# Altium footprint library BIG_FPGA.PcbLib: 29 footprints (part 1 of 2)
Each footprint in its own frame and in the unit in brackets; x right, y up, seen from the top. Pads: shape width x height; smd on the part's side, far side on the other; paste and mask are expansions set on the pad; w line width, h text height; cw(c..) or ccw(c..) is an arc to the next point about the centre after c.
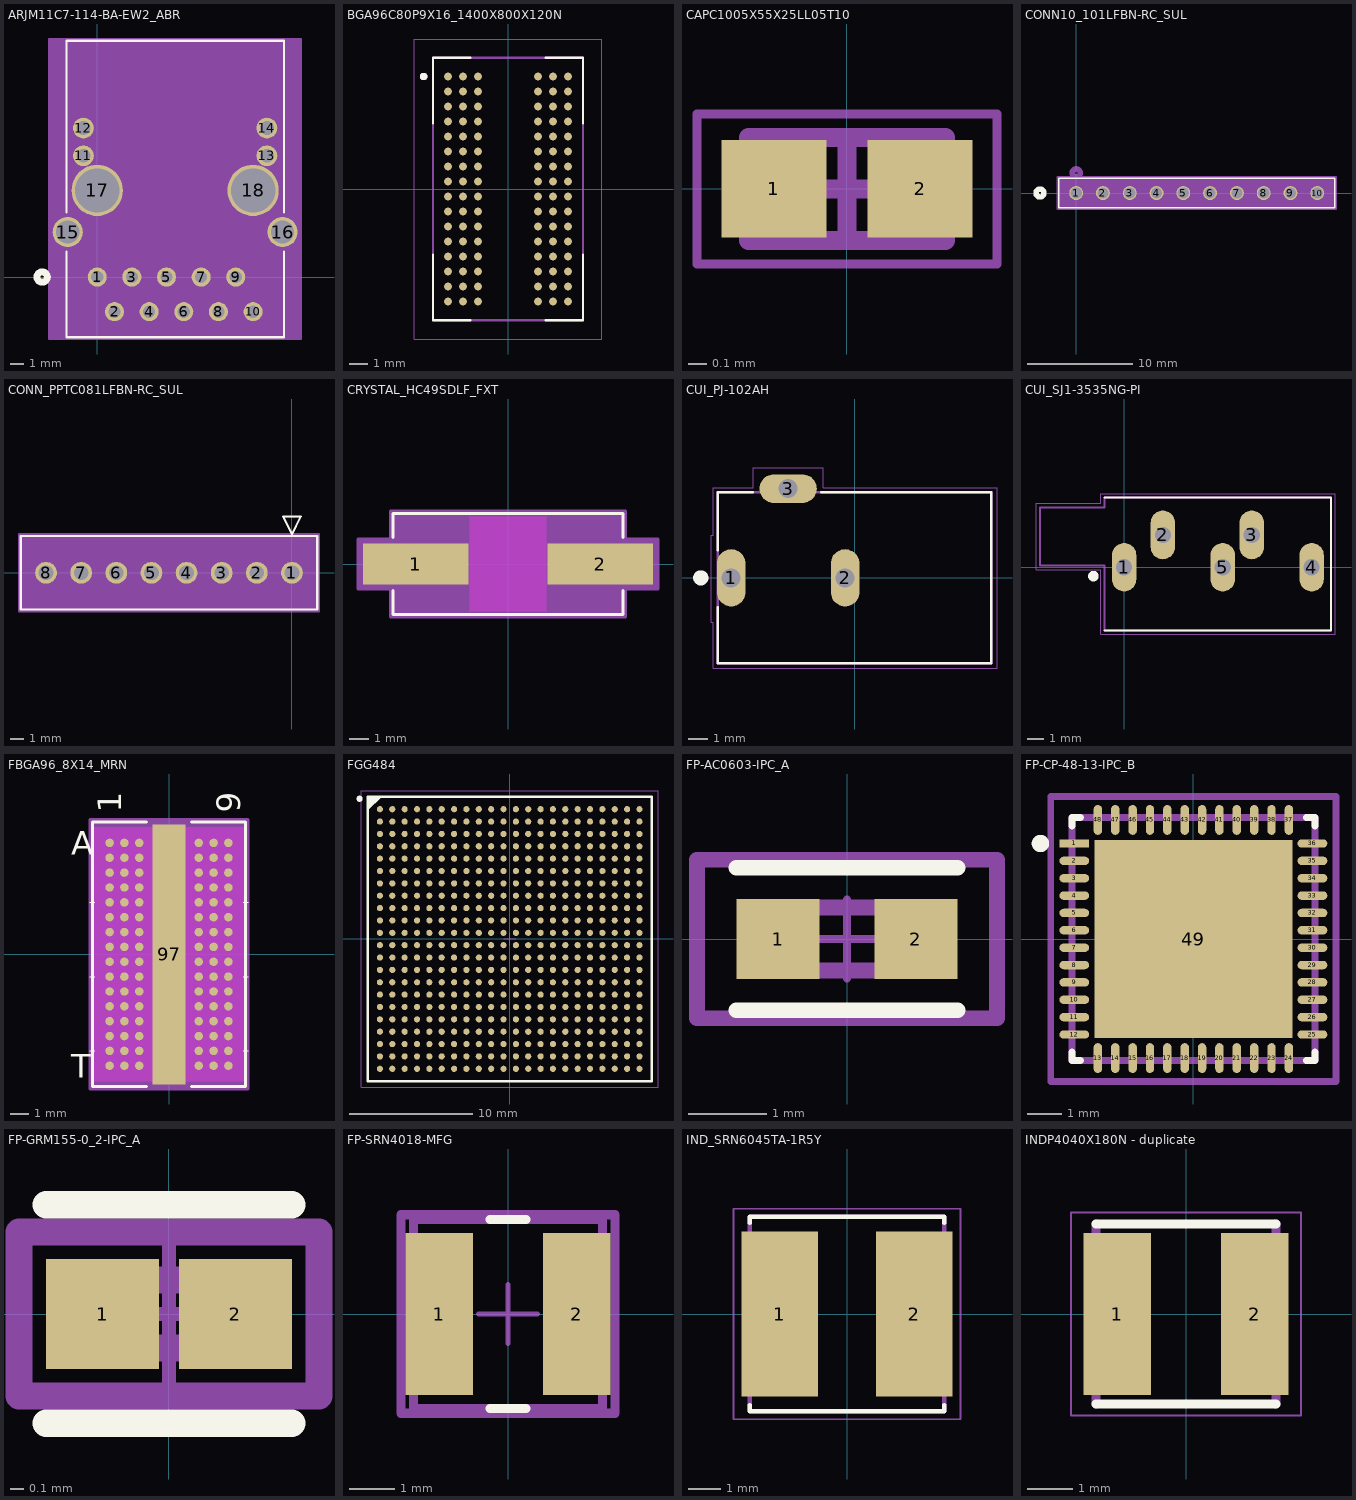
[diagram p0: the footprints below, top view; thin cyan lines are the x and y axes]

## ARJM11C7-114-BA-EW2_ABR [mil]
pads (18):
  round 55 / inner round 60 / far side round 55 hole 35 paste-99999 mask+0: 1(0,0) 2(50,-100) 3(100,0) 4(150,-100) 5(200,0) 6(250,-100) 7(300,0) 8(350,-100) 9(400,0) 10(450,-100)
  round 60 hole 40 unplated paste-99999 mask-30: 11(-39.76,350) 12(-39.76,429.92) 13(489.76,350) 14(489.76,429.92)
  round 87 / inner round 60 / far side round 87 hole 67 paste-99999 mask-43.5: 15(-85.04,129.92) 16(535.04,129.92)
  round 148 / inner round 60 / far side round 148 hole 128 paste-99999 mask-74: 17(0,250) 18(450,250)
Top Overlay:
  circle w20: c-159,0 r15
  lines w6: -89,73.46 -89,-173.83 539,-173.83 539,73.46 ; -89,186.38 -89,682.17 539,682.17 539,186.38
Bottom Overlay:
  circle w20: c-159,0 r15
Top 3D Body:
  circle w20: c0,175 r15
  lines w1: -84,-168.83 -84,677.17 534,677.17 534,-168.83 -84,-168.83
Top Courtyard:
  region: 588.54,687.17 -138.54,687.17 -138.54,-178.83 588.54,-178.83
  lines w6: -138.54,-178.83 588.54,-178.83 588.54,687.17 -138.54,687.17 -138.54,-178.83

## BGA96C80P9X16_1400X800X120N [mm]
pads (96):
  round 0.43 smd: A1(-3.2,6) A2(-2.4,6) A3(-1.6,6) A7(1.6,6) A8(2.4,6) A9(3.2,6) B1(-3.2,5.2) B2(-2.4,5.2) B3(-1.6,5.2) B7(1.6,5.2) B8(2.4,5.2) B9(3.2,5.2) C1(-3.2,4.4) C2(-2.4,4.4) C3(-1.6,4.4) C7(1.6,4.4) C8(2.4,4.4) C9(3.2,4.4) D1(-3.2,3.6) D2(-2.4,3.6) D3(-1.6,3.6) D7(1.6,3.6) D8(2.4,3.6) D9(3.2,3.6) E1(-3.2,2.8) E2(-2.4,2.8) E3(-1.6,2.8) E7(1.6,2.8) E8(2.4,2.8) E9(3.2,2.8) F1(-3.2,2) F2(-2.4,2) F3(-1.6,2) F7(1.6,2) F8(2.4,2) F9(3.2,2) G1(-3.2,1.2) G2(-2.4,1.2) G3(-1.6,1.2) G7(1.6,1.2) G8(2.4,1.2) G9(3.2,1.2) H1(-3.2,0.4) H2(-2.4,0.4) H3(-1.6,0.4) H7(1.6,0.4) H8(2.4,0.4) H9(3.2,0.4) J1(-3.2,-0.4) J2(-2.4,-0.4) J3(-1.6,-0.4) J7(1.6,-0.4) J8(2.4,-0.4) J9(3.2,-0.4) K1(-3.2,-1.2) K2(-2.4,-1.2) K3(-1.6,-1.2) K7(1.6,-1.2) K8(2.4,-1.2) K9(3.2,-1.2) L1(-3.2,-2) L2(-2.4,-2) L3(-1.6,-2) L7(1.6,-2) L8(2.4,-2) L9(3.2,-2) M1(-3.2,-2.8) M2(-2.4,-2.8) M3(-1.6,-2.8) M7(1.6,-2.8) M8(2.4,-2.8) M9(3.2,-2.8) N1(-3.2,-3.6) N2(-2.4,-3.6) N3(-1.6,-3.6) N7(1.6,-3.6) N8(2.4,-3.6) N9(3.2,-3.6) P1(-3.2,-4.4) P2(-2.4,-4.4) P3(-1.6,-4.4) P7(1.6,-4.4) P8(2.4,-4.4) P9(3.2,-4.4) R1(-3.2,-5.2) R2(-2.4,-5.2) R3(-1.6,-5.2) R7(1.6,-5.2) R8(2.4,-5.2) R9(3.2,-5.2) T1(-3.2,-6) T2(-2.4,-6) T3(-1.6,-6) T7(1.6,-6) T8(2.4,-6) T9(3.2,-6)
Top Overlay:
  circle w0.2: c-4.5,6 r0.1
  lines w0.127: -4,-3.5 -4,-7 -2,-7 ; -4,3.5 -4,7 -2,7 ; 2,-7 4,-7 4,-3.5 ; 2,7 4,7 4,3.5
Top 3D Body:
  circle w0.2: c-4.5,6 r0.1
  lines w0.127: -4,-7 -4,7 4,7 4,-7 -4,-7
Top Courtyard:
  lines w0.05: -5,-8 -5,8 5,8 5,-8 -5,-8

## CAPC1005X55X25LL05T10 [mm] "Chip Capacitor, 2-Leads, Body 1.00x0.50mm, IPC High Density"
height 0.55
pads (2):
  rect 0.56x0.52 smd: 1(-0.39,0) 2(0.39,0)
Top 3D Body:
  lines w0.1: -0.525,-0.275 -0.525,0.275 0.525,0.275 0.525,-0.275 -0.525,-0.275
Top Courtyard:
  lines w0.05: -0.8,-0.4 -0.8,0.4 0.8,0.4 0.8,-0.4 -0.8,-0.4
  lines w0.1: -0.275,0 0.275,0 ; 0,-0.275 0,0.275
3D body: height 0.55, standoff 0, extent -0.275,-0.275 0.275,0.275
3D body: height 0.55, standoff 0, extent -0.525,-0.275 -0.275,0.275
3D body: height 0.55, standoff 0, extent 0.275,-0.275 0.525,0.275

## CONN10_101LFBN-RC_SUL [mil]
pads (10):
  round 52 / inner round 60 / far side round 52 hole 42 paste-26 mask+0: 1(0,0) 2(100,0) 3(200,0) 4(300,0) 5(400,0) 6(500,0) 7(600,0) 8(700,0) 9(800,0) 10(900,0)
Top Overlay:
  circle w20: c-135,0 r15
  lines w6: -65,-55 -65,55 965,55 965,-55 -65,-55
Bottom Overlay:
  circle w20: c-135,0 r15
Top 3D Body:
  circle w20: c0,75 r15
  lines w1: -60,-50 -60,50 960,50 960,-50 -60,-50
Top Courtyard:
  region: 970,60 -70,60 -70,-60 970,-60
  lines w6: -70,-60 970,-60 970,60 -70,60 -70,-60

## CONN_PPTC081LFBN-RC_SUL [mil]
pads (8):
  round 62 / inner round 60 / far side round 62 hole 42 paste-31 mask+0: 1(0,0) 2(-100,0) 3(-200,0) 4(-300,0) 5(-400,0) 6(-500,0) 7(-600,0) 8(-700,0)
Top Overlay:
  lines w6: -772,-105 -772,105 72,105 72,-105 -772,-105 ; -25,160 25,160 0,110 -25,160
Top 3D Body:
  lines w1: -767,-100 -767,100 67,100 67,-100 -767,-100 ; -25,160 25,160 0,110 -25,160
Top Courtyard:
  region: 77,110 -777,110 -777,-110 77,-110
  lines w6: -777,-110 77,-110 77,110 -777,110 -777,-110

## CRYSTAL_HC49SDLF_FXT [mil]
pads (2):
  rect 216.5x83 smd paste+0 mask+0: 1(-188.75,0) 2(188.75,0)
Top Layer keep-out:
  region: -78.5,-96.5 -78.5,96.5 78.5,96.5 78.5,-96.5
Top Overlay:
  lines w6: -235.5,-54.6 -235.5,-103.5 235.5,-103.5 235.5,-54.6 ; -235.5,54.6 -235.5,103.5 235.5,103.5 235.5,54.6
Top 3D Body:
  lines w1: -230.5,-98.5 -230.5,98.5 230.5,98.5 230.5,-98.5 -230.5,-98.5
Top Courtyard:
  region: -240.5,-51.5 -307,-51.5 -307,51.5 -240.5,51.5 -240.5,108.5 240.5,108.5 240.5,51.5 307,51.5 307,-51.5 240.5,-51.5 240.5,-108.5 -240.5,-108.5
  lines w6: -307,-51.5 -240.5,-51.5 -240.5,-108.5 240.5,-108.5 240.5,-51.5 307,-51.5 307,51.5 240.5,51.5 240.5,108.5 -240.5,108.5 -240.5,51.5 -307,51.5 -307,-51.5
3D body "CRYSTAL_HC49SDLF_FXT.step": height 177.01, standoff 0, extent -230.51,-98.5 230.51,98.5

## CUI_PJ-102AH [mm]
pads (3):
  oval 1.508x3.016 hole 1 square: 1(-6.5,0) 2(-0.5,0)
  oval 3.016x1.508 hole 1 square: 3(-3.5,4.7)
Top Overlay:
  circle w0.4: c-8.1,0 r0.2
  lines w0.127: -7.2,-1.55 -7.2,-4.5 7.2,-4.5 7.2,4.5 -1.75,4.5 ; -7.2,1.45 -7.2,4.5 -5.35,4.5
Top 3D Body:
  lines w0.127: -7.2,-4.5 -7.2,4.5 7.2,4.5 7.2,-4.5 -7.2,-4.5
Top Courtyard:
  lines w0.05: -7.55,-2.35 -7.45,-2.35 -7.45,-4.75 7.5,-4.75 7.5,4.75 -1.65,4.75 -1.65,5.8 -5.35,5.8 -5.35,4.75 -7.45,4.75 -7.45,2.25 -7.55,2.25 -7.55,-2.35

## CUI_SJ1-3535NG-PI [mm]
pads (5):
  oval 1.508x3.016 hole 1 square: 1(0,0) 2(2.4,2) 3(7.9,2) 4(11.6,0) 5(6.1,0)
Top Overlay:
  circle w0.35: c-1.9,-0.55 r0.15
  lines w0.127: -1.2,-3.9 12.8,-3.9 12.8,4.3 -1.2,4.3
Top 3D Body:
  lines w0.127: -5.2,0.1 -1.2,0.1 -1.2,-3.9 12.8,-3.9 12.8,4.3 -1.2,4.3 -1.2,3.7 -5.2,3.7 -5.2,0.1
Top Courtyard:
  lines w0.05: -5.45,-0.15 -1.45,-0.15 -1.45,-4.15 13.05,-4.15 13.05,4.55 -1.45,4.55 -1.45,3.95 -5.45,3.95 -5.45,-0.15

## FBGA96_8X14_MRN [mil]
pads (97):
  rect 71x551 smd paste-275 mask+0: 97(0,0)
  round 18 smd paste+0 mask+0: A1(-125.98,236.22) A2(-94.49,236.22) A3(-62.99,236.22) A7(62.99,236.22) A8(94.49,236.22) A9(125.98,236.22) B1(-125.98,204.72) B2(-94.49,204.72) B3(-62.99,204.72) B7(62.99,204.72) B8(94.49,204.72) B9(125.98,204.72) C1(-125.98,173.23) C2(-94.49,173.23) C3(-62.99,173.23) C7(62.99,173.23) C8(94.49,173.23) C9(125.98,173.23) D1(-125.98,141.73) D2(-94.49,141.73) D3(-62.99,141.73) D7(62.99,141.73) D8(94.49,141.73) D9(125.98,141.73) E1(-125.98,110.24) E2(-94.49,110.24) E3(-62.99,110.24) E7(62.99,110.24) E8(94.49,110.24) E9(125.98,110.24) F1(-125.98,78.74) F2(-94.49,78.74) F3(-62.99,78.74) F7(62.99,78.74) F8(94.49,78.74) F9(125.98,78.74) G1(-125.98,47.24) G2(-94.49,47.24) G3(-62.99,47.24) G7(62.99,47.24) G8(94.49,47.24) G9(125.98,47.24) H1(-125.98,15.75) H2(-94.49,15.75) H3(-62.99,15.75) H7(62.99,15.75) H8(94.49,15.75) H9(125.98,15.75) J1(-125.98,-15.75) J2(-94.49,-15.75) J3(-62.99,-15.75) J7(62.99,-15.75) J8(94.49,-15.75) J9(125.98,-15.75) K1(-125.98,-47.24) K2(-94.49,-47.24) K3(-62.99,-47.24) K7(62.99,-47.24) K8(94.49,-47.24) K9(125.98,-47.24) L1(-125.98,-78.74) L2(-94.49,-78.74) L3(-62.99,-78.74) L7(62.99,-78.74) L8(94.49,-78.74) L9(125.98,-78.74) M1(-125.98,-110.24) M2(-94.49,-110.24) M3(-62.99,-110.24) M7(62.99,-110.24) M8(94.49,-110.24) M9(125.98,-110.24) N1(-125.98,-141.73) N2(-94.49,-141.73) N3(-62.99,-141.73) N7(62.99,-141.73) N8(94.49,-141.73) N9(125.98,-141.73) P1(-125.98,-173.23) P2(-94.49,-173.23) P3(-62.99,-173.23) P7(62.99,-173.23) P8(94.49,-173.23) P9(125.98,-173.23) R1(-125.98,-204.72) R2(-94.49,-204.72) R3(-62.99,-204.72) R7(62.99,-204.72) R8(94.49,-204.72) R9(125.98,-204.72) T1(-125.98,-236.22) T2(-94.49,-236.22) T3(-62.99,-236.22) T7(62.99,-236.22) T8(94.49,-236.22) T9(125.98,-236.22)
Top Overlay:
  lines w1: -167.5,-204.72 -157.5,-204.72 ; -167.5,-47.24 -157.5,-47.24 ; -167.5,110.24 -157.5,110.24 ; 157.5,-204.72 167.5,-204.72 ; 157.5,-47.24 167.5,-47.24 ; 157.5,110.24 167.5,110.24
  lines w6: -47.61,-280.5 -162.5,-280.5 -162.5,280.5 -47.61,280.5 ; 47.61,-280.5 162.5,-280.5 162.5,280.5 47.61,280.5
  text "9" at 150.98,300.5 h50
  text "1" at -100.98,300.5 h50
  text "T" at -207.5,-261.22 h50
  text "A" at -207.5,211.22 h50
Bottom Overlay:
  text "9" at 100.98,300.5 h50
  text "1" at -150.98,300.5 h50
  text "T" at -182.5,-261.22 h50
  text "A" at -182.5,211.22 h50
Top Paste:
  region: 31.56,-229.35 -31.56,-229.35 -31.56,-271.56 31.56,-271.56
  region: 31.56,-179.26 -31.56,-179.26 -31.56,-221.47 31.56,-221.47
  region: 31.56,-129.16 -31.56,-129.16 -31.56,-171.38 31.56,-171.38
  region: 31.56,-79.07 -31.56,-79.07 -31.56,-121.29 31.56,-121.29
  region: 31.56,-28.98 -31.56,-28.98 -31.56,-71.2 31.56,-71.2
  region: 31.56,21.11 -31.56,21.11 -31.56,-21.11 31.56,-21.11
  region: 31.56,71.2 -31.56,71.2 -31.56,28.98 31.56,28.98
  region: 31.56,121.29 -31.56,121.29 -31.56,79.07 31.56,79.07
  region: 31.56,171.38 -31.56,171.38 -31.56,129.16 31.56,129.16
  region: 31.56,221.47 -31.56,221.47 -31.56,179.26 31.56,179.26
  region: 31.56,271.56 -31.56,271.56 -31.56,229.35 31.56,229.35
Keep-Out Layer:
  region: -159.23,-269.47 -159.23,269.47 159.23,269.47 159.23,-269.47
Top 3D Body:
  lines w1: -157.5,259.75 -141.75,275.5 ; -157.5,-275.5 -157.5,275.5 157.5,275.5 157.5,-275.5 -157.5,-275.5
  text "9" at 150.98,300.5 h50
  text "1" at -100.98,300.5 h50
  text "T" at -207.5,-261.22 h50
  text "A" at -207.5,211.22 h50
Top Courtyard:
  region: 167.5,-285.5 -167.5,-285.5 -167.5,285.5 167.5,285.5
  lines w6: -167.5,-285.5 167.5,-285.5 167.5,285.5 -167.5,285.5 -167.5,-285.5
3D body "FBGA96_8X14_MRN.step": height 47.09, standoff 0.02, extent -157.48,-275.51 157.48,275.51

## FGG484 [mm] "BGA, 484-Balls, Body 23x23mm, Pitch 1mm"
height 2.6
pads (484):
  round 0.5 smd: A1(-10.5,10.5) A2(-9.5,10.5) A3(-8.5,10.5) A4(-7.5,10.5) A5(-6.5,10.5) A6(-5.5,10.5) A7(-4.5,10.5) A8(-3.5,10.5) A9(-2.5,10.5) A10(-1.5,10.5) A11(-0.5,10.5) A12(0.5,10.5) A13(1.5,10.5) A14(2.5,10.5) A15(3.5,10.5) A16(4.5,10.5) A17(5.5,10.5) A18(6.5,10.5) A19(7.5,10.5) A20(8.5,10.5) A21(9.5,10.5) A22(10.5,10.5) AA1(-10.5,-9.5) AA2(-9.5,-9.5) AA3(-8.5,-9.5) AA4(-7.5,-9.5) AA5(-6.5,-9.5) AA6(-5.5,-9.5) AA7(-4.5,-9.5) AA8(-3.5,-9.5) AA9(-2.5,-9.5) AA10(-1.5,-9.5) AA11(-0.5,-9.5) AA12(0.5,-9.5) AA13(1.5,-9.5) AA14(2.5,-9.5) AA15(3.5,-9.5) AA16(4.5,-9.5) AA17(5.5,-9.5) AA18(6.5,-9.5) AA19(7.5,-9.5) AA20(8.5,-9.5) AA21(9.5,-9.5) AA22(10.5,-9.5) AB1(-10.5,-10.5) AB2(-9.5,-10.5) AB3(-8.5,-10.5) AB4(-7.5,-10.5) AB5(-6.5,-10.5) AB6(-5.5,-10.5) AB7(-4.5,-10.5) AB8(-3.5,-10.5) AB9(-2.5,-10.5) AB10(-1.5,-10.5) AB11(-0.5,-10.5) AB12(0.5,-10.5) AB13(1.5,-10.5) AB14(2.5,-10.5) AB15(3.5,-10.5) AB16(4.5,-10.5) AB17(5.5,-10.5) AB18(6.5,-10.5) AB19(7.5,-10.5) AB20(8.5,-10.5) AB21(9.5,-10.5) AB22(10.5,-10.5) B1(-10.5,9.5) B2(-9.5,9.5) B3(-8.5,9.5) B4(-7.5,9.5) B5(-6.5,9.5) B6(-5.5,9.5) B7(-4.5,9.5) B8(-3.5,9.5) B9(-2.5,9.5) B10(-1.5,9.5) B11(-0.5,9.5) B12(0.5,9.5) B13(1.5,9.5) B14(2.5,9.5) B15(3.5,9.5) B16(4.5,9.5) B17(5.5,9.5) B18(6.5,9.5) B19(7.5,9.5) B20(8.5,9.5) B21(9.5,9.5) B22(10.5,9.5) C1(-10.5,8.5) C2(-9.5,8.5) C3(-8.5,8.5) C4(-7.5,8.5) C5(-6.5,8.5) C6(-5.5,8.5) C7(-4.5,8.5) C8(-3.5,8.5) C9(-2.5,8.5) C10(-1.5,8.5) C11(-0.5,8.5) C12(0.5,8.5) C13(1.5,8.5) C14(2.5,8.5) C15(3.5,8.5) C16(4.5,8.5) C17(5.5,8.5) C18(6.5,8.5) C19(7.5,8.5) C20(8.5,8.5) C21(9.5,8.5) C22(10.5,8.5) D1(-10.5,7.5) D2(-9.5,7.5) D3(-8.5,7.5) D4(-7.5,7.5) D5(-6.5,7.5) D6(-5.5,7.5) D7(-4.5,7.5) D8(-3.5,7.5) D9(-2.5,7.5) D10(-1.5,7.5) D11(-0.5,7.5) D12(0.5,7.5) D13(1.5,7.5) D14(2.5,7.5) D15(3.5,7.5) D16(4.5,7.5) D17(5.5,7.5) D18(6.5,7.5) D19(7.5,7.5) D20(8.5,7.5) D21(9.5,7.5) D22(10.5,7.5) E1(-10.5,6.5) E2(-9.5,6.5) E3(-8.5,6.5) E4(-7.5,6.5) E5(-6.5,6.5) E6(-5.5,6.5) E7(-4.5,6.5) E8(-3.5,6.5) E9(-2.5,6.5) E10(-1.5,6.5) E11(-0.5,6.5) E12(0.5,6.5) E13(1.5,6.5) E14(2.5,6.5) E15(3.5,6.5) E16(4.5,6.5) E17(5.5,6.5) E18(6.5,6.5) E19(7.5,6.5) E20(8.5,6.5) E21(9.5,6.5) E22(10.5,6.5) F1(-10.5,5.5) F2(-9.5,5.5) F3(-8.5,5.5) F4(-7.5,5.5) F5(-6.5,5.5) F6(-5.5,5.5) F7(-4.5,5.5) F8(-3.5,5.5) F9(-2.5,5.5) F10(-1.5,5.5) F11(-0.5,5.5) F12(0.5,5.5) F13(1.5,5.5) F14(2.5,5.5) F15(3.5,5.5) F16(4.5,5.5) F17(5.5,5.5) F18(6.5,5.5) F19(7.5,5.5) F20(8.5,5.5) F21(9.5,5.5) F22(10.5,5.5) G1(-10.5,4.5) G2(-9.5,4.5) G3(-8.5,4.5) G4(-7.5,4.5) G5(-6.5,4.5) G6(-5.5,4.5) G7(-4.5,4.5) G8(-3.5,4.5) G9(-2.5,4.5) G10(-1.5,4.5) G11(-0.5,4.5) G12(0.5,4.5) G13(1.5,4.5) G14(2.5,4.5) G15(3.5,4.5) G16(4.5,4.5) G17(5.5,4.5) G18(6.5,4.5) G19(7.5,4.5) G20(8.5,4.5) G21(9.5,4.5) G22(10.5,4.5) H1(-10.5,3.5) H2(-9.5,3.5) H3(-8.5,3.5) H4(-7.5,3.5) H5(-6.5,3.5) H6(-5.5,3.5) H7(-4.5,3.5) H8(-3.5,3.5) H9(-2.5,3.5) H10(-1.5,3.5) H11(-0.5,3.5) H12(0.5,3.5) H13(1.5,3.5) H14(2.5,3.5) H15(3.5,3.5) H16(4.5,3.5) H17(5.5,3.5) H18(6.5,3.5) H19(7.5,3.5) H20(8.5,3.5) H21(9.5,3.5) H22(10.5,3.5) J1(-10.5,2.5) J2(-9.5,2.5) J3(-8.5,2.5) J4(-7.5,2.5) J5(-6.5,2.5) J6(-5.5,2.5) J7(-4.5,2.5) J8(-3.5,2.5) J9(-2.5,2.5) J10(-1.5,2.5) J11(-0.5,2.5) J12(0.5,2.5) J13(1.5,2.5) J14(2.5,2.5) J15(3.5,2.5) J16(4.5,2.5) J17(5.5,2.5) J18(6.5,2.5) J19(7.5,2.5) J20(8.5,2.5) J21(9.5,2.5) J22(10.5,2.5) K1(-10.5,1.5) K2(-9.5,1.5) K3(-8.5,1.5) K4(-7.5,1.5) K5(-6.5,1.5) K6(-5.5,1.5) K7(-4.5,1.5) K8(-3.5,1.5) K9(-2.5,1.5) K10(-1.5,1.5) K11(-0.5,1.5) K12(0.5,1.5) K13(1.5,1.5) K14(2.5,1.5) K15(3.5,1.5) K16(4.5,1.5) K17(5.5,1.5) K18(6.5,1.5) K19(7.5,1.5) K20(8.5,1.5) K21(9.5,1.5) K22(10.5,1.5) L1(-10.5,0.5) L2(-9.5,0.5) L3(-8.5,0.5) L4(-7.5,0.5) L5(-6.5,0.5) L6(-5.5,0.5) L7(-4.5,0.5) L8(-3.5,0.5) L9(-2.5,0.5) L10(-1.5,0.5) L11(-0.5,0.5) L12(0.5,0.5) L13(1.5,0.5) L14(2.5,0.5) L15(3.5,0.5) L16(4.5,0.5) L17(5.5,0.5) L18(6.5,0.5) L19(7.5,0.5) L20(8.5,0.5) L21(9.5,0.5) L22(10.5,0.5) M1(-10.5,-0.5) M2(-9.5,-0.5) M3(-8.5,-0.5) M4(-7.5,-0.5) M5(-6.5,-0.5) M6(-5.5,-0.5) M7(-4.5,-0.5) M8(-3.5,-0.5) M9(-2.5,-0.5) M10(-1.5,-0.5) M11(-0.5,-0.5) M12(0.5,-0.5) M13(1.5,-0.5) M14(2.5,-0.5) M15(3.5,-0.5) M16(4.5,-0.5) M17(5.5,-0.5) M18(6.5,-0.5) M19(7.5,-0.5) M20(8.5,-0.5) M21(9.5,-0.5) M22(10.5,-0.5) N1(-10.5,-1.5) N2(-9.5,-1.5) N3(-8.5,-1.5) N4(-7.5,-1.5) N5(-6.5,-1.5) N6(-5.5,-1.5) N7(-4.5,-1.5) N8(-3.5,-1.5) N9(-2.5,-1.5) N10(-1.5,-1.5) N11(-0.5,-1.5) N12(0.5,-1.5) N13(1.5,-1.5) N14(2.5,-1.5) N15(3.5,-1.5) N16(4.5,-1.5) N17(5.5,-1.5) N18(6.5,-1.5) N19(7.5,-1.5) N20(8.5,-1.5) N21(9.5,-1.5) N22(10.5,-1.5) P1(-10.5,-2.5) P2(-9.5,-2.5) P3(-8.5,-2.5) P4(-7.5,-2.5) P5(-6.5,-2.5) P6(-5.5,-2.5) P7(-4.5,-2.5) P8(-3.5,-2.5) P9(-2.5,-2.5) P10(-1.5,-2.5) P11(-0.5,-2.5) P12(0.5,-2.5) P13(1.5,-2.5) P14(2.5,-2.5) P15(3.5,-2.5) P16(4.5,-2.5) P17(5.5,-2.5) P18(6.5,-2.5) P19(7.5,-2.5) P20(8.5,-2.5) P21(9.5,-2.5) P22(10.5,-2.5) R1(-10.5,-3.5) R2(-9.5,-3.5) R3(-8.5,-3.5) R4(-7.5,-3.5) R5(-6.5,-3.5) R6(-5.5,-3.5) R7(-4.5,-3.5) R8(-3.5,-3.5) R9(-2.5,-3.5) R10(-1.5,-3.5) R11(-0.5,-3.5) R12(0.5,-3.5) R13(1.5,-3.5) R14(2.5,-3.5) R15(3.5,-3.5) R16(4.5,-3.5) R17(5.5,-3.5) R18(6.5,-3.5) R19(7.5,-3.5) R20(8.5,-3.5) R21(9.5,-3.5) R22(10.5,-3.5) T1(-10.5,-4.5) T2(-9.5,-4.5) T3(-8.5,-4.5) T4(-7.5,-4.5) T5(-6.5,-4.5) T6(-5.5,-4.5) T7(-4.5,-4.5) T8(-3.5,-4.5) T9(-2.5,-4.5) T10(-1.5,-4.5) T11(-0.5,-4.5) T12(0.5,-4.5) T13(1.5,-4.5) T14(2.5,-4.5) T15(3.5,-4.5) T16(4.5,-4.5) T17(5.5,-4.5) T18(6.5,-4.5) T19(7.5,-4.5) T20(8.5,-4.5) T21(9.5,-4.5) T22(10.5,-4.5) U1(-10.5,-5.5) U2(-9.5,-5.5) U3(-8.5,-5.5) U4(-7.5,-5.5) U5(-6.5,-5.5) U6(-5.5,-5.5) U7(-4.5,-5.5) U8(-3.5,-5.5) U9(-2.5,-5.5) U10(-1.5,-5.5) U11(-0.5,-5.5) U12(0.5,-5.5) U13(1.5,-5.5) U14(2.5,-5.5) U15(3.5,-5.5) U16(4.5,-5.5) U17(5.5,-5.5) U18(6.5,-5.5) U19(7.5,-5.5) U20(8.5,-5.5) U21(9.5,-5.5) U22(10.5,-5.5) V1(-10.5,-6.5) V2(-9.5,-6.5) V3(-8.5,-6.5) V4(-7.5,-6.5) V5(-6.5,-6.5) V6(-5.5,-6.5) V7(-4.5,-6.5) V8(-3.5,-6.5) V9(-2.5,-6.5) V10(-1.5,-6.5) V11(-0.5,-6.5) V12(0.5,-6.5) V13(1.5,-6.5) V14(2.5,-6.5) V15(3.5,-6.5) V16(4.5,-6.5) V17(5.5,-6.5) V18(6.5,-6.5) V19(7.5,-6.5) V20(8.5,-6.5) V21(9.5,-6.5) V22(10.5,-6.5) W1(-10.5,-7.5) W2(-9.5,-7.5) W3(-8.5,-7.5) W4(-7.5,-7.5) W5(-6.5,-7.5) W6(-5.5,-7.5) W7(-4.5,-7.5) W8(-3.5,-7.5) W9(-2.5,-7.5) W10(-1.5,-7.5) W11(-0.5,-7.5) W12(0.5,-7.5) W13(1.5,-7.5) W14(2.5,-7.5) W15(3.5,-7.5) W16(4.5,-7.5) W17(5.5,-7.5) W18(6.5,-7.5) W19(7.5,-7.5) W20(8.5,-7.5) W21(9.5,-7.5) W22(10.5,-7.5) Y1(-10.5,-8.5) Y2(-9.5,-8.5) Y3(-8.5,-8.5) Y4(-7.5,-8.5) Y5(-6.5,-8.5) Y6(-5.5,-8.5) Y7(-4.5,-8.5) Y8(-3.5,-8.5) Y9(-2.5,-8.5) Y10(-1.5,-8.5) Y11(-0.5,-8.5) Y12(0.5,-8.5) Y13(1.5,-8.5) Y14(2.5,-8.5) Y15(3.5,-8.5) Y16(4.5,-8.5) Y17(5.5,-8.5) Y18(6.5,-8.5) Y19(7.5,-8.5) Y20(8.5,-8.5) Y21(9.5,-8.5) Y22(10.5,-8.5)
Top Overlay:
  circle w0.25: c-12.15,11.35 r0.125
  region: -10.5,11.5 -11.5,10.5 -11.5,11.5
  lines w0.2: -11.5,10.5 -10.5,11.5 ; -11.5,-11.5 11.5,-11.5 11.5,11.5 -11.5,11.5 -11.5,-11.5
Top 3D Body:
  lines w0.1: -11.5,-11.5 11.5,-11.5 11.5,11.5 -11.5,11.5 -11.5,-11.5
Top Courtyard:
  lines w0.05: -12,-12 12,-12 12,12 -12,12 -12,-12
  lines w0.1: -0.5,0 0.5,0 ; 0,-0.5 0,0.5
3D body: height 2.6, standoff 0.35, extent -11.5,-11.5 11.5,11.5

## FP-AC0603-IPC_A [mm]
pads (2):
  rect 1.059x1.012 smd paste+0 mask+0: 1(-0.877,0) 2(0.877,0)
Top Overlay:
  lines w0.2: -1.406,-0.906 1.406,-0.906 ; -1.406,0.906 1.406,0.906
Top Assembly:
  lines w0.2: -1.906,-1.006 1.906,-1.006 1.906,1.006 -1.906,1.006 -1.906,-1.006
  text ".Designator" at 0,0.188 h1
Top 3D Body:
  lines w0.2: -0.8,-0.4 0.8,-0.4 0.8,0.4 -0.8,0.4 -0.8,-0.4
Top Courtyard:
  lines w0.2: -1.906,-1.006 1.906,-1.006 1.906,1.006 -1.906,1.006 -1.906,-1.006
Top Component Center:
  lines w0.1: -0.5,0 0.5,0 ; 0,-0.5 0,0.5
3D body "Res_Yageo_AC0603FR-07180RL_eec.STEP": height 0.25, standoff 0, extent -1.906,-1.006 1.906,1.006

## FP-CP-48-13-IPC_B [mm]
pads (49):
  rect 0.856x0.242 smd paste+0 mask+0: 1(-3.428,2.75)
  rrect100% 0.856x0.242 smd paste+0 mask+0: 2(-3.428,2.25) 3(-3.428,1.75) 4(-3.428,1.25) 5(-3.428,0.75) 6(-3.428,0.25) 7(-3.428,-0.25) 8(-3.428,-0.75) 9(-3.428,-1.25) 10(-3.428,-1.75) 11(-3.428,-2.25) 12(-3.428,-2.75) 25(3.428,-2.75) 26(3.428,-2.25) 27(3.428,-1.75) 28(3.428,-1.25) 29(3.428,-0.75) 30(3.428,-0.25) 31(3.428,0.25) 32(3.428,0.75) 33(3.428,1.25) 34(3.428,1.75) 35(3.428,2.25) 36(3.428,2.75)
  rrect100% 0.242x0.856 smd paste+0 mask+0: 13(-2.75,-3.428) 14(-2.25,-3.428) 15(-1.75,-3.428) 16(-1.25,-3.428) 17(-0.75,-3.428) 18(-0.25,-3.428) 19(0.25,-3.428) 20(0.75,-3.428) 21(1.25,-3.428) 22(1.75,-3.428) 23(2.25,-3.428) 24(2.75,-3.428) 37(2.75,3.428) 38(2.25,3.428) 39(1.75,3.428) 40(1.25,3.428) 41(0.75,3.428) 42(0.25,3.428) 43(-0.25,3.428) 44(-0.75,3.428) 45(-1.25,3.428) 46(-1.75,3.428) 47(-2.25,3.428) 48(-2.75,3.428)
  rect 5.7x5.7 smd paste-1000 mask+0: 49(0,0)
Top Overlay:
  circle w0.25: c-4.406,2.75 r0.125
  lines w0.2: -3.5,-3.25 -3.5,-3.5 -3.25,-3.5 ; -3.5,3.25 -3.5,3.5 -3.25,3.5 ; 3.25,-3.5 3.5,-3.5 3.5,-3.25 ; 3.25,3.5 3.5,3.5 3.5,3.25
Top Paste:
  rectangle: 0.349,-2.152 2.152,-0.349
  rectangle: -2.152,-2.152 -0.349,-0.349
  rectangle: 0.349,0.349 2.152,2.152
  rectangle: -2.152,0.349 -0.349,2.152
Top Assembly:
  lines w0.2: -4.106,-4.106 -4.106,4.106 4.106,4.106 4.106,-4.106 -4.106,-4.106
  text ".Designator" at 0,-0.001 h1
Top 3D Body:
  lines w0.2: -3.5,-3.5 -3.5,3.5 3.5,3.5 3.5,-3.5 -3.5,-3.5
Top Courtyard:
  lines w0.2: -4.106,-4.106 -4.106,4.106 4.106,4.106 4.106,-4.106 -4.106,-4.106
Top Component Center:
  lines w0.1: -0.5,0 0.5,0 ; 0,-0.5 0,0.5
3D body "IC_Analog_Devices_ADP5052ACPZ-R7_eec.STEP": height 0.25, standoff 0, extent -4.106,-4.106 4.106,4.106

## FP-GRM155-0_2-IPC_A [mm]
pads (2):
  rect 0.828x0.806 smd paste+0 mask+0: 1(-0.489,0) 2(0.489,0)
Top Overlay:
  lines w0.2: -0.903,-0.803 0.903,-0.803 ; -0.903,0.803 0.903,0.803
Top Assembly:
  lines w0.2: -1.103,-0.603 1.103,-0.603 1.103,0.603 -1.103,0.603 -1.103,-0.603
  text ".Designator" at 0,0.188 h1
Top 3D Body:
  lines w0.2: -0.5,-0.25 0.5,-0.25 0.5,0.25 -0.5,0.25 -0.5,-0.25
Top Courtyard:
  lines w0.2: -1.103,-0.603 1.103,-0.603 1.103,0.603 -1.103,0.603 -1.103,-0.603
Top Component Center:
  lines w0.1: -0.5,0 0.5,0 ; 0,-0.5 0,0.5
3D body "Cap_Murata_GRM155R61E225KE11D_eec.STEP": height 0.25, standoff 0, extent -1.103,-0.603 1.103,0.603

## FP-SRN4018-MFG [mm]
pads (2):
  rect 1.5x3.6 smd paste+0 mask+0: 1(-1.525,0) 2(1.525,0)
Top Overlay:
  lines w0.2: -0.4,-2.1 0.4,-2.1 ; -0.4,2.1 0.4,2.1
Top Assembly:
  lines w0.2: -2.375,-2.2 -2.375,2.2 2.375,2.2 2.375,-2.2 -2.375,-2.2
  text ".Designator" at 0,0 h2
Top 3D Body:
  lines w0.2: -2.1,-2.1 -2.1,2.1 2.1,2.1 2.1,-2.1 -2.1,-2.1
Top Courtyard:
  lines w0.2: -2.375,-2.2 -2.375,2.2 2.375,2.2 2.375,-2.2 -2.375,-2.2
Top Component Center:
  lines w0.1: -0.66,0 0.66,0 ; 0,-0.66 0,0.66

## IND_SRN6045TA-1R5Y [mm]
pads (2):
  rect 2.35x5.1 smd: 1(-2.075,0) 2(2.075,0)
Top Overlay:
  lines w0.127: -3,-2.8 -3,-3 3,-3 3,-2.8 ; -3,2.8 -3,3 3,3 3,2.8
Top 3D Body:
  lines w0.127: -3,-3 3,-3 3,3 -3,3 -3,-3
Top Courtyard:
  lines w0.05: -3.5,-3.25 3.5,-3.25 3.5,3.25 -3.5,3.25 -3.5,-3.25

## INDP4040X180N - duplicate [mm]
pads (2):
  rect 1.5x3.6 smd: 1(-1.525,0) 2(1.525,0)
Top Overlay:
  lines w0.2: -2,-2 2,-2 ; -2,2 2,2
Top 3D Body:
  lines w0.2: -2,-2 -2,2 ; 2,-2 2,2
Top Courtyard:
  lines w0.05: -2.55,-2.25 -2.55,2.25 2.55,2.25 2.55,-2.25 -2.55,-2.25